# Altium footprint library PcbLib1.PcbLib: 1 footprints
Each footprint in its own frame and in the unit in brackets; x right, y up, seen from the top. Pads: shape width x height; smd on the part's side, far side on the other; paste and mask are expansions set on the pad; w line width, h text height; cw(c..) or ccw(c..) is an arc to the next point about the centre after c.
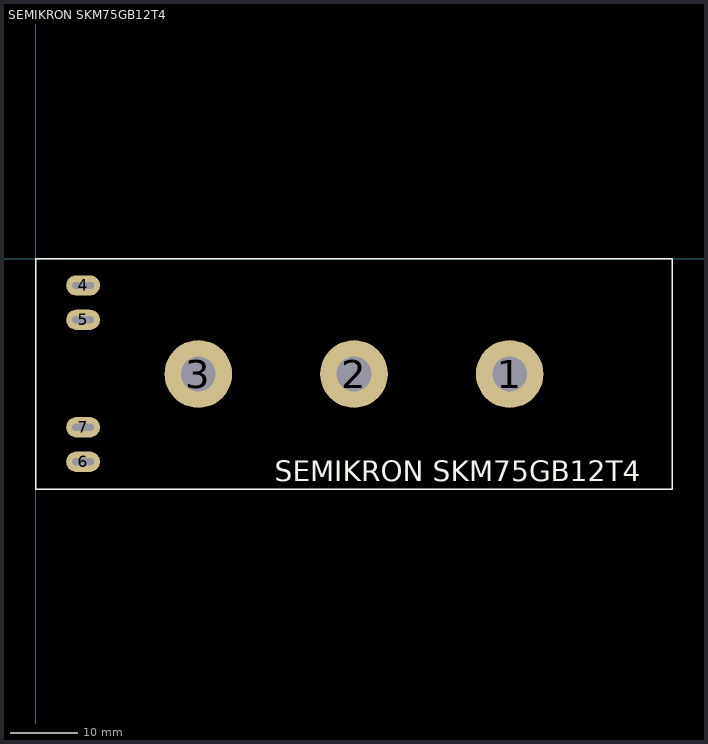
[diagram p0: the footprint, top view; thin cyan lines are the x and y axes]

## SEMIKRON SKM75GB12T4 [mm]
pads (7):
  round 10 hole 5.1: 1(69.977,-17.018) 2(46.99,-17.018) 3(24.003,-17.018)
  rrect100% 5x3 hole 1 slot 3.2 at 0 deg: 4(6.985,-3.937) 5(6.985,-9.017) 6(6.985,-29.972) 7(6.985,-24.892)
Top Overlay:
  lines w0.254: 0,-34.036 0,0 93.98,0 93.98,-34.036 0,-34.036
  text "SEMIKRON SKM75GB12T4" at 35.306,-32.893 h3